# Altium footprint library Resistors.PcbLib: 4 footprints
Each footprint in its own frame and in the unit in brackets; x right, y up, seen from the top. Pads: shape width x height; smd on the part's side, far side on the other; paste and mask are expansions set on the pad; w line width, h text height; cw(c..) or ccw(c..) is an arc to the next point about the centre after c.
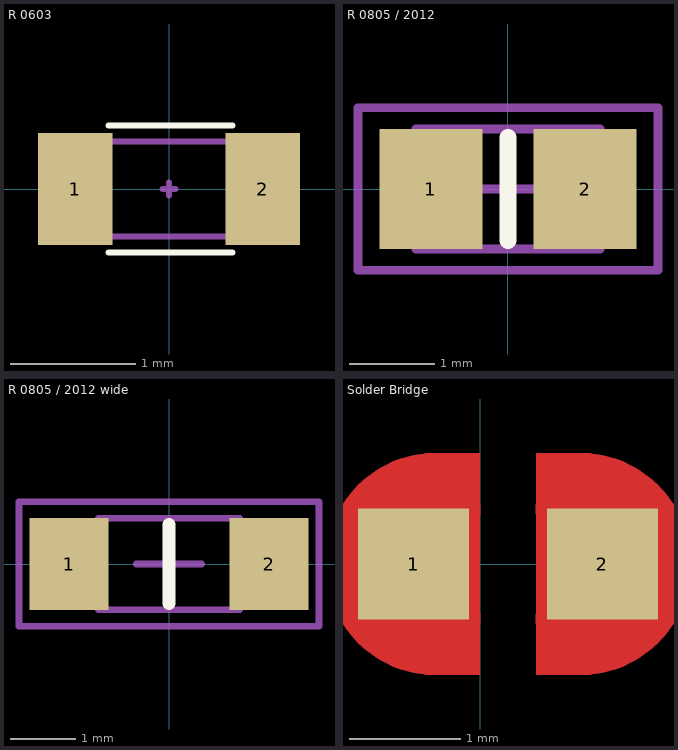
[diagram p0: the footprints below, top view; thin cyan lines are the x and y axes]

## R 0603 [mm]
pads (2):
  rect 0.6x0.9 smd mask+0.01: 1(-0.75,0) 2(0.75,0)
Top Overlay:
  lines w0.05: -0.483,-0.508 0.508,-0.508 ; -0.483,0.508 0.508,0.508
Mechanical 13:
  lines w0.05: -0.762,-0.381 -0.762,0.381 0.787,0.381 0.787,-0.381 -0.762,-0.381
Mechanical 15:
  lines w0.05: -0.051,0 0.051,0 ; 0,-0.051 0,0.051
3D body: height 0.56, standoff 0, extent -0.824,-0.4 0.876,0.4

## R 0805 / 2012 [mm] "Resistor 0805 / 2012 (2.0 x 1.2 mm)"
height 1.3
pads (2):
  rect 1.2x1.4 smd: 1(-0.9,0) 2(0.9,0)
Top Overlay:
  lines w0.2: 0,-0.6 0,0.6
Mechanical 13:
  lines w0.1: -1.075,-0.7 -1.075,0.7 1.075,0.7 1.075,-0.7 -1.075,-0.7
Mechanical 15:
  lines w0.1: -0.5,0 0.5,0 ; 0,-0.5 0,0.5 ; -1.75,-0.95 -1.75,0.95 1.75,0.95 1.75,-0.95 -1.75,-0.95
3D body: height 0.45, standoff 0, extent -1,-0.625 1,0.625

## R 0805 / 2012 wide [mm] "Resistor 0805 / 2012 (2.0 x 1.2 mm)"
height 1.3
pads (2):
  rect 1.2x1.4 smd: 1(-1.524,0) 2(1.524,0)
Top Overlay:
  lines w0.2: 0,-0.6 0,0.6
Mechanical 13:
  lines w0.1: -1.075,-0.7 -1.075,0.7 1.075,0.7 1.075,-0.7 -1.075,-0.7
Mechanical 15:
  lines w0.1: -0.5,0 0.5,0 ; 0,-0.5 0,0.5 ; -2.286,-0.95 -2.286,0.95 2.286,0.95 2.286,-0.95 -2.286,-0.95
3D body: height 0.45, standoff 0, extent -1,-0.625 1,0.625

## Solder Bridge [mm]
pads (2):
  rect 1x1 smd: 1(-0.6,0) 2(1.1,0)
Top Layer:
  rectangle: -0.5,-1 0,1
  rectangle: -1,-0.5 -0.5,0.5
  region: 1.5,0.5 1,0.5 1,-0.5 1.5,-0.5
  region: 1,1 0.5,1 0.5,-1 1,-1
  lines w1: -0.498,-0.49 cw(c-0.4,0) -0.498,0.49 ; 0.998,-0.49 ccw(c0.9,0) 0.998,0.49